# Altium schematic symbol library AWM633TX.SchLib: 1 symbol
Pins are listed as number, name and electrical type; pins without a type are passive.

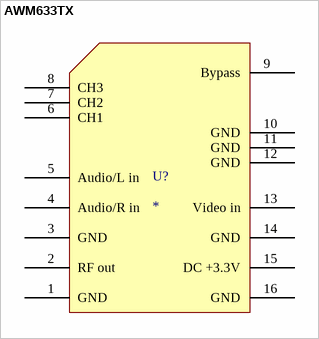
[diagram p0: symbol AWM633TX]

## AWM633TX
designator U?
Airwave 2.4Ghz A/V Trasmitter Module; Part No.: AWM633TX; Vendor: nghobbies.com; Manufacturer: Airwave; Price Est.: $23.95
pins: 1 GND, 2 RF out, 3 GND, 4 Audio/R in, 5 Audio/L in, 6 CH1, 7 CH2, 8 CH3, 9 Bypass, 10 GND, 11 GND, 12 GND, 13 Video in, 14 GND, 15 DC +3.3V, 16 GND